# Altium footprint library S3B-EH.PcbLib: 1 footprints
Each footprint in its own frame and in the unit in brackets; x right, y up, seen from the top. Pads: shape width x height; smd on the part's side, far side on the other; paste and mask are expansions set on the pad; w line width, h text height; cw(c..) or ccw(c..) is an arc to the next point about the centre after c.
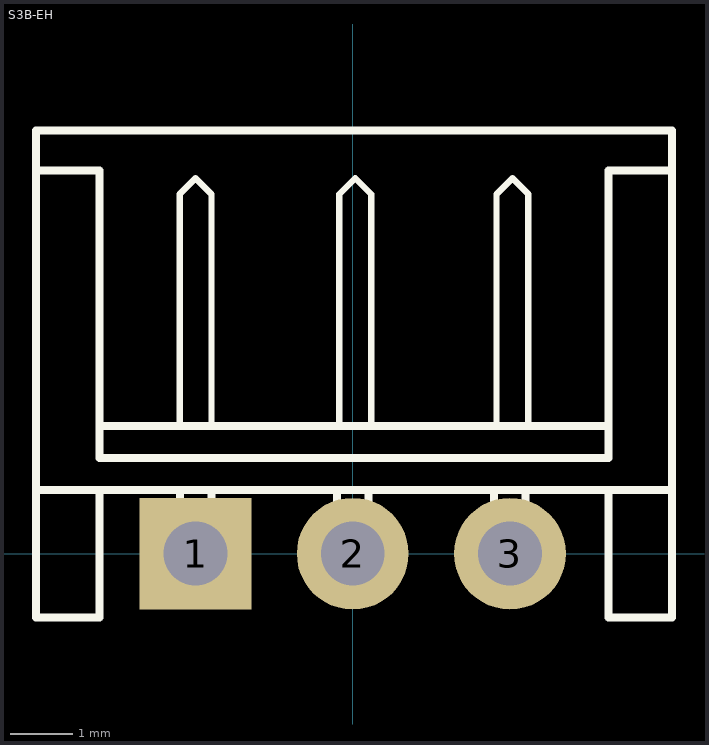
[diagram p0: the footprint, top view; thin cyan lines are the x and y axes]

## S3B-EH [mil] "EH Connector 2.5mm pitch, side entry"
height 165.35
pads (3):
  rect 70x70 hole 40: 1(-98.43,0)
  round 70 hole 40: 2(0,0) 3(98.43,0)
TopOverlay:
  lines w4: -108.43,80 -108.43,225 -98.43,235 -88.43,225 -88.43,80 ; -8.43,80 -8.43,225 1.57,235 11.57,225 11.57,80 ; 90,80 90,225 100,235 110,225 110,80
  lines w5: -198.43,240 -158.43,240 -158.43,60 160,60 160,240 200,240 ; -158.43,80 160,80 ; -108.27,39.37 -108.27,-19.68 -88.58,-19.68 -88.58,39.37 ; -9.84,39.37 -9.84,-19.68 9.84,-19.68 9.84,39.37 ; 88.58,39.37 88.58,-19.68 108.27,-19.68 108.27,39.37 ; -198.43,40 -198.43,265 200,265 200,40 ; -198.43,40 -198.43,-40 -158.43,-40 -158.43,40 ; -198.43,40 -158.43,40 ; -158.43,40 160,40 ; 160,40 160,-40 200,-40 200,40 ; 160,40 200,40
3D body: height 165.35, standoff 0, extent 160.02,-39.98 199.98,39.98
3D body: height 39.37, standoff 0, extent -198.41,80.02 199.98,264.98
3D body: height 165.35, standoff 0, extent -198.41,-39.98 -158.45,39.98
3D body: height 165.35, standoff 0, extent -198.41,40.02 199.98,239.98